# Altium footprint library CAPMP3216X180N.PcbLib: 1 footprints
Each footprint in its own frame and in the unit in brackets; x right, y up, seen from the top. Pads: shape width x height; smd on the part's side, far side on the other; paste and mask are expansions set on the pad; w line width, h text height; cw(c..) or ccw(c..) is an arc to the next point about the centre after c.
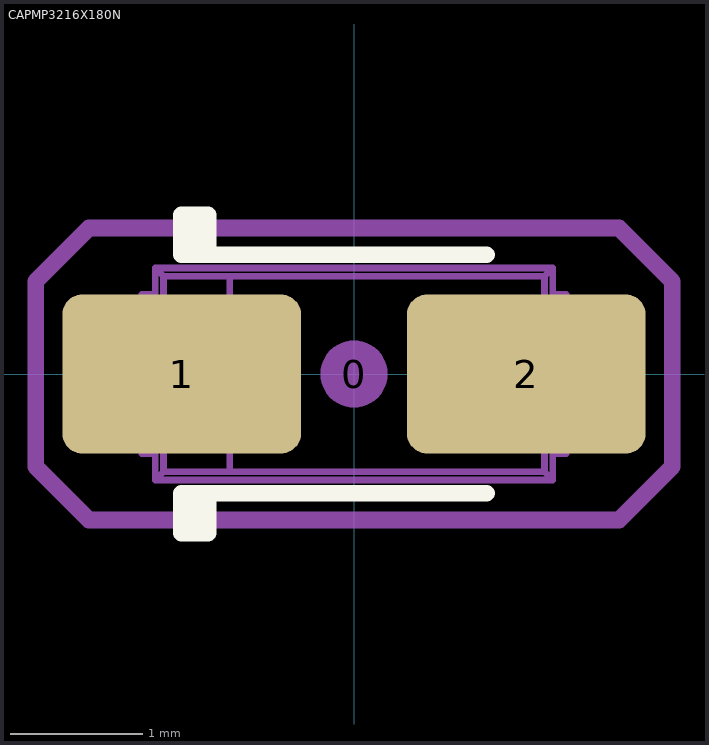
[diagram p0: the footprint, top view; thin cyan lines are the x and y axes]

## CAPMP3216X180N [mm] "Capacitor, polarized, Molded Body, EIA 535BAAC size A; 3.20mm L X 1.60mm W X 1.80mm H"
height 1.8
pads (3):
  round 0.508 on Mech15: 0(0,0)
  rrect25% 1.8x1.2 smd: 1(-1.3,0) 2(1.3,0)
Top Overlay:
  lines w0.127: -1.2,-1.2 -1.2,-0.9 ; -1.2,0.9 -1.2,1.2 ; -1.1,-0.9 -1.1,-1.2 -1.3,-1.2 -1.3,-0.9 1,-0.9 ; -1.1,0.9 -1.1,1.2 -1.3,1.2 -1.3,0.9 1,0.9
Mechanical 13:
  lines w0.05: -1.6,-0.36 -1.499,-0.36 ; -1.6,0.36 -1.499,0.36 ; -1.499,-0.6 -1.6,-0.6 -1.6,0.6 -1.499,0.6 ; -0.937,-0.737 -0.937,0.737 ; 1.499,-0.6 1.6,-0.6 1.6,0.6 1.499,0.6 ; 1.499,-0.36 1.6,-0.36 ; 1.499,0.36 1.6,0.36 ; -1.5,-0.8 -1.437,-0.737 ; -1.5,-0.8 1.5,-0.8 ; -1.5,-0.8 -1.5,0.8 ; -1.5,0.8 -1.437,0.737 ; -1.5,0.8 1.5,0.8 ; -1.437,-0.737 1.437,-0.737 ; -1.437,-0.737 -1.437,0.737 ; -1.437,0.737 1.437,0.737 ; 1.437,-0.737 1.5,-0.8 ; 1.437,-0.737 1.437,0.737 ; 1.437,0.737 1.5,0.8 ; 1.5,-0.8 1.5,0.8
Mechanical 15:
  lines w0.127: -2.4,-0.7 -2.4,0.7 -2,1.1 2,1.1 2.4,0.7 2.4,-0.7 2,-1.1 -2,-1.1 -2.4,-0.7
3D body "CAPMP3216X180N.STEP": height 1.8, standoff 0, extent -1.6,-0.8 1.6,0.8